# EAGLE library part RT9018A/B (library Richtek-RT9018AB)
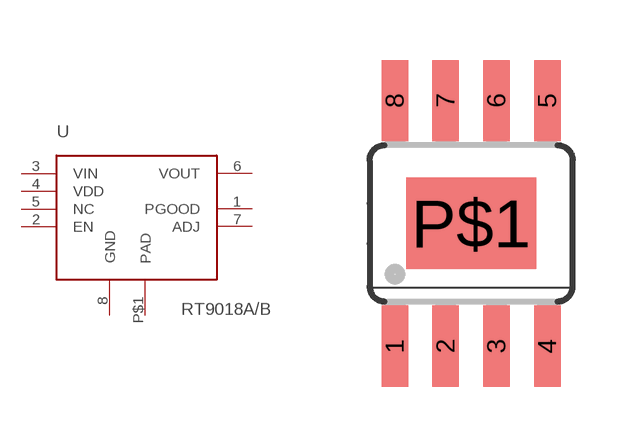
[diagram p0: symbol with the pads of SO08; footprint SO08]

Designator prefix -

## RT9018A/B  [SO08]
1  PGOOD
2  EN
3  VIN
4  VDD
5  NC
6  VOUT
7  ADJ
8  GND
P$1  PAD

## Footprint SO08 (pad centres in mm)
Small Outline package 150 mil
smd 0.66 x 2.032: 1 -1.905,-3.073; 2 -0.635,-3.073; 3 0.635,-3.073; 4 1.905,-3.073; 5 1.905,3.073; 6 0.635,3.073; 7 -0.635,3.073; 8 -1.905,3.073
smd 3.251 x 2.286: P$1 0,0